# Altium footprint library LED_SMD.PcbLib: 91 footprints (part 6 of 6)
Each footprint in its own frame and in the unit in brackets; x right, y up, seen from the top. Pads: shape width x height; smd on the part's side, far side on the other; paste and mask are expansions set on the pad; w line width, h text height; cw(c..) or ccw(c..) is an arc to the next point about the centre after c.
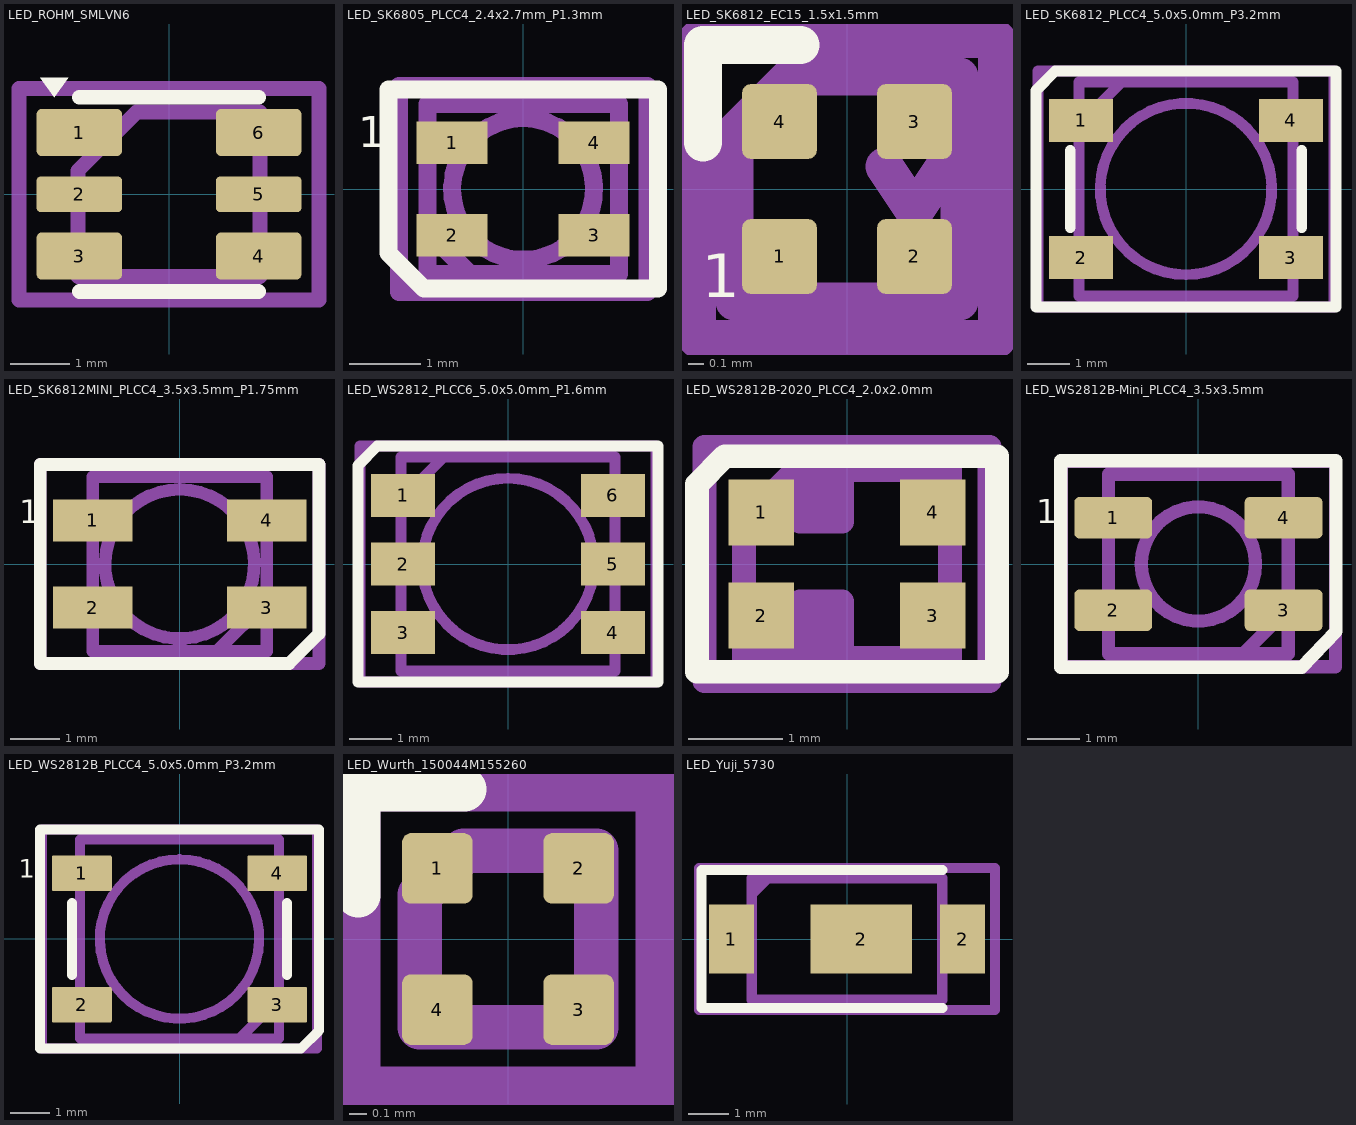
[diagram p5: the footprints below, top view; thin cyan lines are the x and y axes]

## LED_ROHM_SMLVN6 [mm]
pads (6):
  rrect20% 1.45x0.8 smd: 1(-1.525,1.05) 3(-1.525,-1.05) 4(1.525,-1.05) 6(1.525,1.05)
  rrect20% 1.45x0.6 smd: 2(-1.525,0) 5(1.525,0)
F.SilkS:
  region: -1.95,1.65 -2.19,1.98 -1.71,1.98
  lines w0.254: -1.525,-1.65 1.525,-1.65 ; -1.525,1.65 1.525,1.65
F.CrtYd:
  lines w0.254: -2.55,-1.8 -2.55,1.8 2.55,1.8 2.55,-1.8 -2.55,-1.8
F.Fab:
  lines w0.254: -1.55,-1.4 -1.55,0.4 -0.55,1.4 1.55,1.4 1.55,-1.4 -1.55,-1.4
  text "'.Designator'" at -1.008,-0.279 h0.7

## LED_SK6805_PLCC4_2.4x2.7mm_P1.3mm [mm]
pads (4):
  rect 1x0.6 smd: 1(-1,0.65) 2(-1,-0.65) 3(1,-0.65) 4(1,0.65)
F.SilkS:
  lines w0.254: -1.9,-0.9 -1.9,1.4 1.9,1.4 1.9,-1.4 -1.4,-1.4 -1.9,-0.9
  text "1" at -2.327,0.442 h0.75
F.CrtYd:
  lines w0.254: -1.75,-1.45 -1.75,1.45 1.75,1.45 1.75,-1.45 -1.75,-1.45
F.Fab:
  circle w0.254: c0,0 r1
  lines w0.254: -1.35,-0.6 -0.75,-1.2 ; -1.35,-1.2 -1.35,1.2 1.35,1.2 1.35,-1.2 -1.35,-1.2
  text "'.Designator'" at -0.573,-0.159 h0.4

## LED_SK6812_EC15_1.5x1.5mm [mm]
pads (4):
  rrect25% 0.5x0.5 smd: 1(-0.45,-0.45) 2(0.45,-0.45) 3(0.45,0.45) 4(-0.45,0.45)
F.SilkS:
  lines w0.254: -0.96,0.31 -0.96,0.96 -0.31,0.96
  text "1" at -0.968,-0.818 h0.5
F.CrtYd:
  lines w0.254: -1,-1 -1,1 1,1 1,-1 -1,-1
F.Fab:
  lines w0.254: 0.25,0.15 0.45,-0.15 0.65,0.15 ; -0.75,-0.75 -0.75,0.375 -0.375,0.75 0.75,0.75 0.75,-0.75 -0.75,-0.75
  text "'.Designator'" at 0.099,-0.719 h0.5

## LED_SK6812_PLCC4_5.0x5.0mm_P3.2mm [mm]
pads (4):
  rect 1.5x1 smd: 1(-2.45,1.6) 2(-2.45,-1.6) 3(2.45,-1.6) 4(2.45,1.6)
F.SilkS:
  lines w0.254: -2.7,-0.9 -2.7,0.9 ; 2.7,-0.9 2.7,0.9 ; -3.5,-2.75 -3.5,2.3 -3.05,2.75 3.5,2.75 3.5,-2.75 -3.5,-2.75
F.CrtYd:
  lines w0.254: -3.45,-2.75 -3.45,2.75 3.45,2.75 3.45,-2.75 -3.45,-2.75
F.Fab:
  circle w0.254: c0,0 r2
  lines w0.254: -2.5,1.5 -1.5,2.5 ; -2.5,-2.5 -2.5,2.5 2.5,2.5 2.5,-2.5 -2.5,-2.5
  text "'.Designator'" at -1.15,-0.319 h0.8

## LED_SK6812MINI_PLCC4_3.5x3.5mm_P1.75mm [mm]
pads (4):
  rect 1.6x0.85 smd: 1(-1.75,0.875) 2(-1.75,-0.875) 3(1.75,-0.875) 4(1.75,0.875)
F.SilkS:
  lines w0.254: -2.8,-2 -2.8,2 2.8,2 2.8,-1.4 2.2,-2 -2.8,-2
  text "1" at -3.228,0.654 h0.8
F.CrtYd:
  lines w0.254: -2.8,-2 -2.8,2 2.8,2 2.8,-2 -2.8,-2
F.Fab:
  circle w0.254: c0,0 r1.5
  lines w0.254: 0.75,-1.75 1.75,-0.75 ; -1.75,-1.75 -1.75,1.75 1.75,1.75 1.75,-1.75 -1.75,-1.75
  text "'.Designator'" at -0.719,-0.199 h0.5

## LED_WS2812_PLCC6_5.0x5.0mm_P1.6mm [mm]
pads (6):
  rect 1.5x1 smd: 1(-2.45,1.6) 2(-2.45,0) 3(-2.45,-1.6) 4(2.45,-1.6) 5(2.45,0) 6(2.45,1.6)
F.SilkS:
  lines w0.254: -3.5,-2.75 -3.5,2.3 -3.05,2.75 3.5,2.75 3.5,-2.75 -3.5,-2.75
F.CrtYd:
  lines w0.254: -3.45,-2.75 -3.45,2.75 3.45,2.75 3.45,-2.75 -3.45,-2.75
F.Fab:
  circle w0.254: c0,0 r2
  lines w0.254: -2.5,1.5 -1.5,2.5 ; -2.5,-2.5 -2.5,2.5 2.5,2.5 2.5,-2.5 -2.5,-2.5
  text "'.Designator'" at -1.15,-0.319 h0.8

## LED_WS2812B-2020_PLCC4_2.0x2.0mm [mm]
pads (4):
  rect 0.7x0.7 smd: 1(-0.915,0.55) 2(-0.915,-0.55) 3(0.915,-0.55) 4(0.915,0.55)
F.SilkS:
  lines w0.254: -1.6,-1.15 -1.6,0.85 -1.3,1.15 1.6,1.15 1.6,-1.15 -1.6,-1.15
F.CrtYd:
  lines w0.254: -1.52,-1.25 -1.52,1.25 1.52,1.25 1.52,-1.25 -1.52,-1.25
F.Fab:
  region: -0.05,0.45 -0.5,0.45 -0.5,1 -0.05,1
  region: -0.05,-1 -0.5,-1 -0.5,-0.4 -0.05,-0.4
  lines w0.254: -1.1,-1 -1.1,0.45 -0.55,1 1.1,1 1.1,-1 -1.1,-1 ; -0.5,-1 -0.5,-0.4 -0.05,-0.4 -0.05,-1 -0.5,-1 ; -0.5,0.45 -0.5,1 -0.05,1 -0.05,0.45 -0.5,0.45
  text "'.Designator'" at -0.719,-0.199 h0.5

## LED_WS2812B-Mini_PLCC4_3.5x3.5mm [mm]
pads (4):
  rrect25% 1.5x0.8 smd: 1(-1.64,0.89) 2(-1.64,-0.89) 3(1.64,-0.89) 4(1.64,0.89)
F.SilkS:
  lines w0.254: -2.65,-1.99 -2.65,1.99 2.65,1.99 2.65,-1.3 1.99,-1.99 -2.65,-1.99
  text "1" at -3.128,0.629 h0.8
F.CrtYd:
  lines w0.254: -2.64,-1.98 -2.64,1.98 2.64,1.98 2.64,-1.98 -2.64,-1.98
F.Fab:
  circle w0.254: c0,0 r1.1
  lines w0.254: 0.86,-1.73 1.73,-0.86 ; -1.73,-1.73 -1.73,1.73 1.73,1.73 1.73,-1.73 -1.73,-1.73
  text "'.Designator'" at -1.15,-0.319 h0.8

## LED_WS2812B_PLCC4_5.0x5.0mm_P3.2mm [mm]
pads (4):
  rrect10% 1.5x0.9 smd: 1(-2.45,1.65) 2(-2.45,-1.65) 3(2.45,-1.65) 4(2.45,1.65)
F.SilkS:
  lines w0.254: -2.7,-0.9 -2.7,0.9 ; 2.7,-0.9 2.7,0.9 ; -3.5,-2.75 -3.5,2.75 3.5,2.75 3.5,-2.3 3.05,-2.75 -3.5,-2.75
  text "1" at -4.028,1.379 h0.8
F.CrtYd:
  lines w0.254: -3.45,-2.75 -3.45,2.75 3.45,2.75 3.45,-2.75 -3.45,-2.75
F.Fab:
  circle w0.254: c0,0 r2
  lines w0.254: 1.5,-2.5 2.5,-1.5 ; -2.5,-2.5 -2.5,2.5 2.5,2.5 2.5,-2.5 -2.5,-2.5
  text "'.Designator'" at -1.15,-0.319 h0.8

## LED_Wurth_150044M155260 [mm]
pads (4):
  rrect25% 0.4x0.4 smd: 1(-0.4,0.4) 2(0.4,0.4) 3(0.4,-0.4) 4(-0.4,-0.4)
F.SilkS:
  lines w0.254: -0.85,0.25 -0.85,0.85 -0.25,0.85
F.CrtYd:
  lines w0.254: -0.85,-0.85 -0.85,0.85 0.85,0.85 0.85,-0.85 -0.85,-0.85
F.Fab:
  lines w0.254: -0.5,-0.5 -0.5,0.25 -0.25,0.5 0.5,0.5 0.5,-0.5 -0.5,-0.5
  text "'.Designator'" at -0.719,0.801 h0.5

## LED_Yuji_5730 [mm]
pads (3):
  rect 1.1x1.7 smd: 1(-2.85,0) 2(2.85,0)
  rect 2.5x1.7 smd: 2(0.35,0)
F.SilkS:
  lines w0.254: 2.35,-1.7 -3.59,-1.7 -3.59,1.7 2.35,1.7
F.CrtYd:
  lines w0.254: -3.65,-1.75 -3.65,1.75 3.65,1.75 3.65,-1.75 -3.65,-1.75
F.Fab:
  lines w0.254: -2.35,1.1 -1.95,1.5 ; -2.35,-1.5 -2.35,1.5 2.35,1.5 2.35,-1.5 -2.35,-1.5
  text "'.Designator'" at -1.15,-0.319 h0.8